# EAGLE library part CD4009UBPWR (library signpost)
Buffer array 6 elements
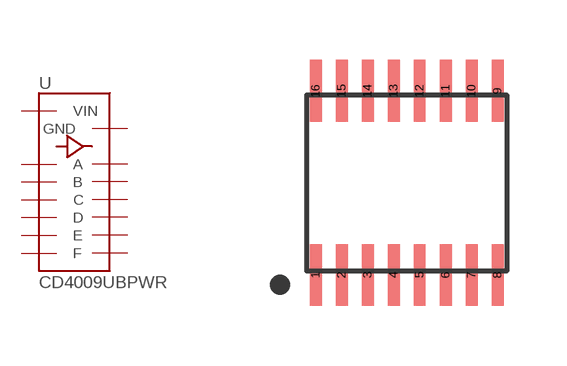
[diagram p5: symbol with the pads of TSSOP-16; footprint TSSOP-16]

Designator prefix -

## CD4009UBPWR (DIGIKEY: 296-14240-1-ND)  [TSSOP-16]
1  VIN
2  A-G
3  A
4  B-H
5  B
6  C-I
7  C
8  GND
9  D
10  D-J
11  E
12  E-K
14  F
15  F-L
16  VIN

## Footprint TSSOP-16 (pad centres in mm)
smd 0.3 x 1.55: 1 -2.275,-2.3; 2 -1.625,-2.3; 3 -0.975,-2.3; 4 -0.325,-2.3; 5 0.325,-2.3; 6 0.975,-2.3; 7 1.625,-2.3; 8 2.275,-2.3; 9 2.275,2.3; 10 1.625,2.3; 11 0.975,2.3; 12 0.325,2.3; 13 -0.325,2.3; 14 -0.975,2.3; 15 -1.625,2.3; 16 -2.275,2.3